# Altium footprint library Batarey_connector.PcbLib: 1 footprints
Each footprint in its own frame and in the unit in brackets; x right, y up, seen from the top. Pads: shape width x height; smd on the part's side, far side on the other; paste and mask are expansions set on the pad; w line width, h text height; cw(c..) or ccw(c..) is an arc to the next point about the centre after c.
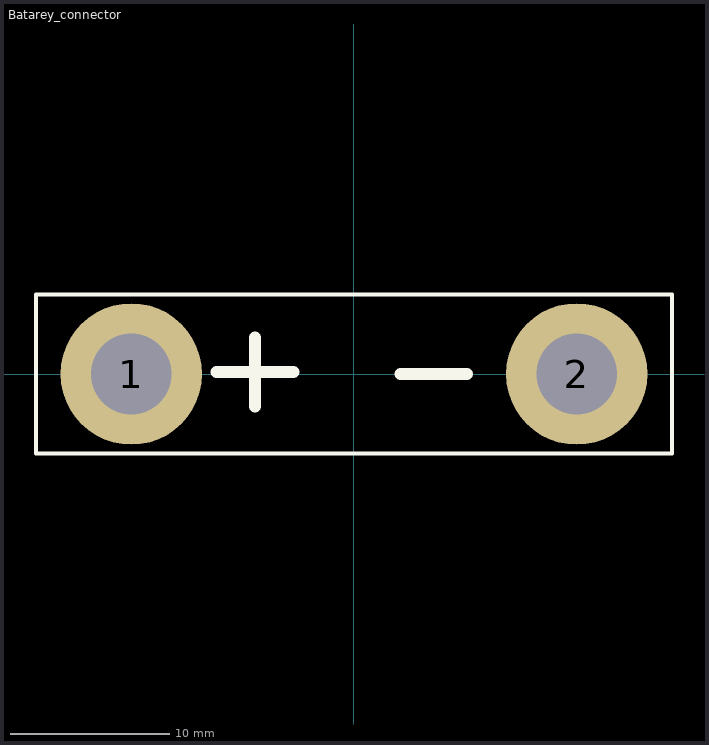
[diagram p0: the footprint, top view; thin cyan lines are the x and y axes]

## Batarey_connector [mm]
pads (2):
  round 8.89 hole 5.08: 1(-14,0) 2(14,0)
Top Overlay:
  lines w0.254: -20,-5 20,-5 20,5 -20,5 -20,-5
  lines w0.762: -8.636,0.127 -3.81,0.127 ; -6.223,-2.032 -6.223,2.286 ; 2.921,0 7.112,0
Bottom Overlay:
  lines w0.508: -20,-5 20,-5 20,5 -20,5 -20,-5
  lines w0.762: -8.636,0.127 -3.81,0.127 ; -6.223,-2.032 -6.223,2.286 ; 2.921,0 7.112,0